# Altium footprint library PERfECT.PcbLib: 17 footprints (part 1 of 2)
Each footprint in its own frame and in the unit in brackets; x right, y up, seen from the top. Pads: shape width x height; smd on the part's side, far side on the other; paste and mask are expansions set on the pad; w line width, h text height; cw(c..) or ccw(c..) is an arc to the next point about the centre after c.
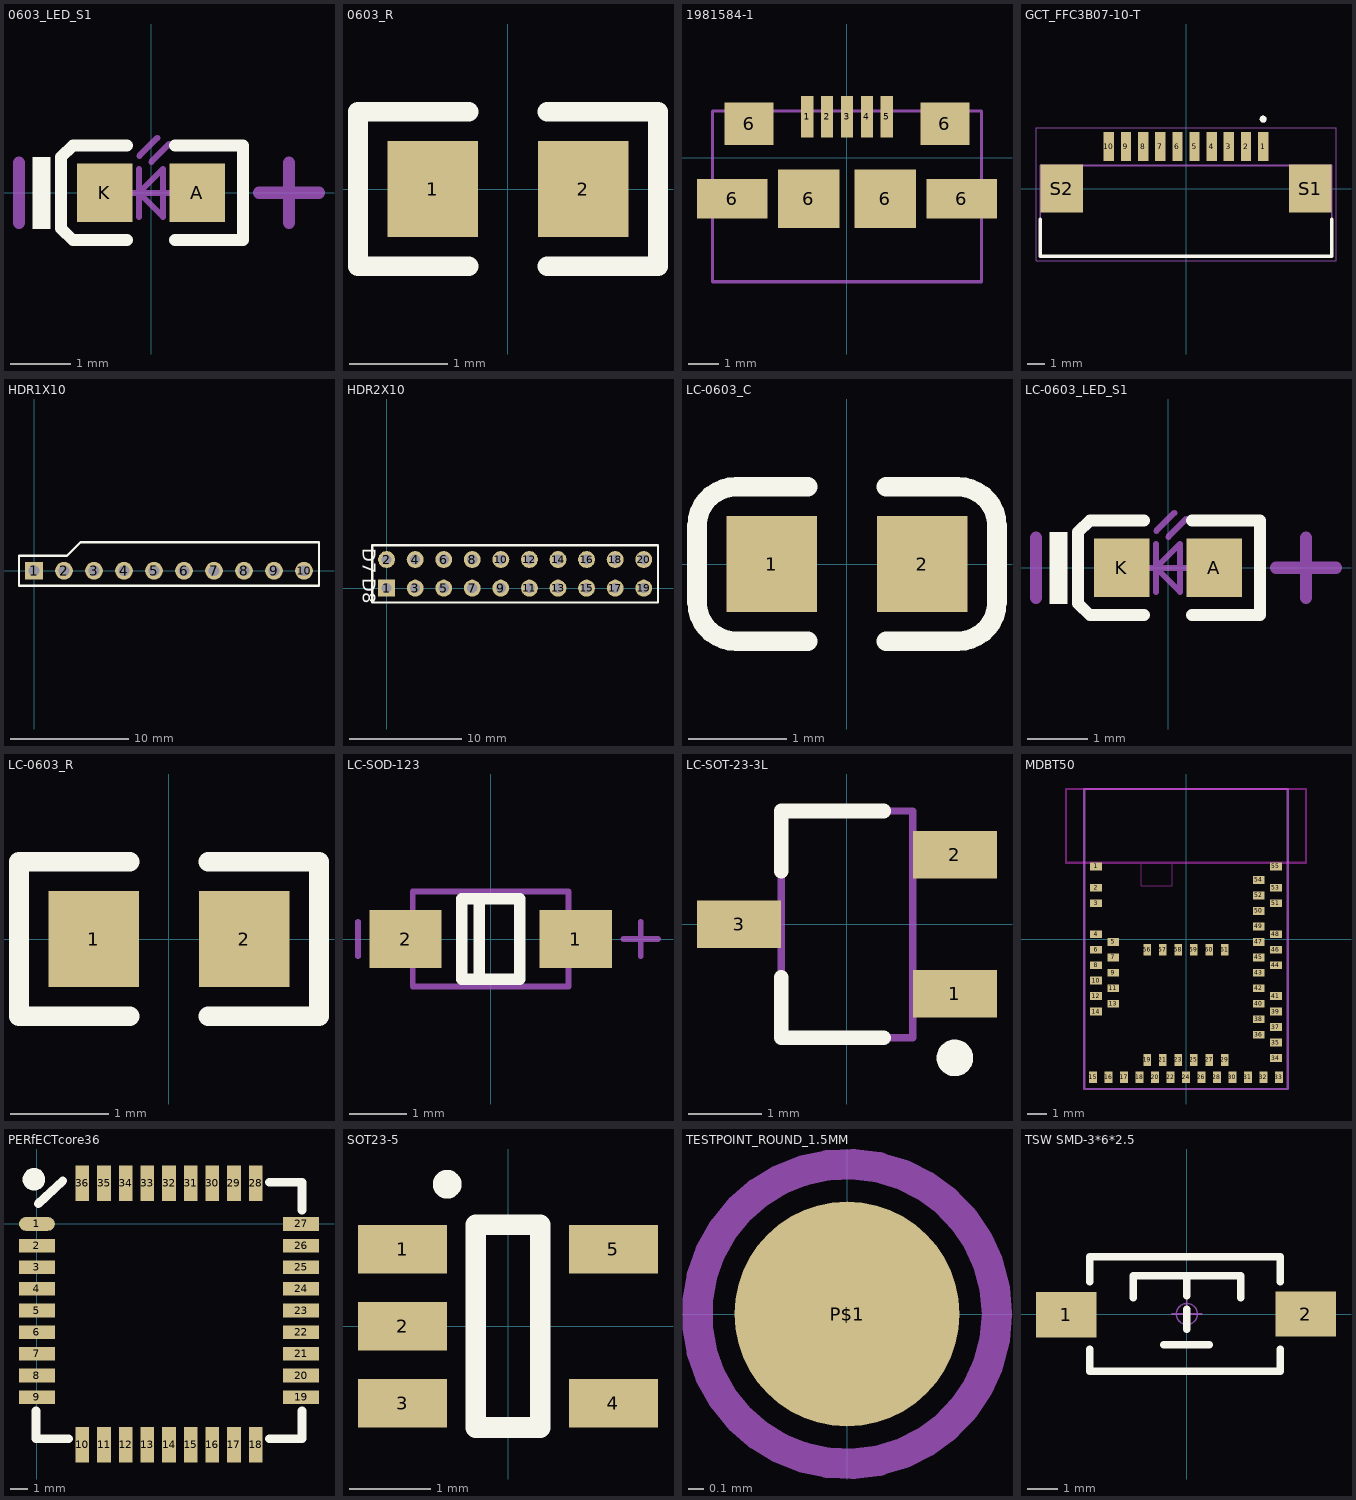
[diagram p0: the footprints below, top view; thin cyan lines are the x and y axes]

## 0603_LED_S1 [mm]
pads (2):
  rect 0.93x0.98 smd: A(0.77,0) K(-0.77,0)
Top Overlay:
  rectangle: -1.975,-0.6 -1.675,0.6
  lines w0.2: -0.4,-0.79 -1.3,-0.79 -1.5,-0.597 -1.5,0.597 -1.3,0.79 -0.4,0.79 ; 0.4,-0.79 1.535,-0.79 1.535,0.79 0.4,0.79
Mechanical 13:
  lines w0.1: -0.4,0 0.4,0 ; -0.2,-0.4 -0.2,0.4 ; -0.195,0.617 0.105,0.917 ; 0.005,0.517 0.305,0.817 ; -0.2,0 0.2,-0.4 0.2,0.4 -0.2,0
Mechanical 15:
  lines w0.203: -2.2,-0.5 -2.2,0.5 ; 1.8,0 2.8,0 ; 2.3,-0.5 2.3,0.5
3D body "User Library-LED_0603_R.STEP": height 0.6, standoff 0, extent -0.8,-0.4 0.8,0.4

## 0603_R [mm]
pads (2):
  rect 0.93x0.98 smd: 1(-0.77,0) 2(0.77,0)
Top Overlay:
  lines w0.2: -0.4,-0.79 -1.535,-0.79 -1.535,0.79 -0.4,0.79 ; 0.4,-0.79 1.535,-0.79 1.535,0.79 0.4,0.79
3D body "User Library-RES_1609-0603.STEP": height 0.56, standoff 0, extent -0.85,-0.4 0.85,0.4

## 1981584-1 [mm]
pads (11):
  rect 0.4x1.35 smd: 1(-1.3,1.338) 2(-0.65,1.338) 3(0,1.338) 4(0.65,1.338) 5(1.3,1.338)
  rect 2.3x1.3 smd: 6(-3.75,-1.337) 6(3.75,-1.337)
  rect 1.6x1.4 smd: 6(-3.2,1.113) 6(3.2,1.113)
  rect 2x1.9 smd: 6(-1.25,-1.337) 6(1.25,-1.337)
Mechanical 5:
  lines w0.102: -4.4,-4.05 -4.4,1.525 4.4,1.525 4.4,-4.05 -4.4,-4.05
  text ".Designator" at -2.54,2.794 h0.51
3D body "1981584-1.STEP": height 2.75, standoff -0.3, extent -4.4,-4.05 4.4,1.55

## GCT_FFC3B07-10-T [mm]
pads (12):
  rect 0.6x1.7 smd: 1(4.5,2.45) 2(3.5,2.45) 3(2.5,2.45) 4(1.5,2.45) 5(0.5,2.45) 6(-0.5,2.45) 7(-1.5,2.45) 8(-2.5,2.45) 9(-3.5,2.45) 10(-4.5,2.45)
  rect 2.5x2.8 smd: S1(7.25,0) S2(-7.25,0)
Top Overlay:
  circle w0.2: c4.5,4.05 r0.1
  lines w0.2: -8.5,-1.8 -8.5,-3.95 8.5,-3.95 8.5,-1.8
Mechanical 13:
  circle w0.2: c4.5,4.05 r0.1
  lines w0.1: -8.5,-3.95 8.5,-3.95 8.5,1.35 -8.5,1.35 -8.5,-3.95
Mechanical 15:
  lines w0.05: -8.75,-4.2 -8.75,3.55 8.75,3.55 8.75,-4.2 -8.75,-4.2
3D body "ZF1-10-01-T-WT-TR.stp": height 3.03, standoff 0.03, extent -8.505,-3.861 8.505,3.048

## HDR1X10 [mm]
pads (10):
  rect 1.5x1.5 hole 0.9: 1(0,0)
  round 1.5 hole 0.9: 2(2.54,0) 3(5.08,0) 4(7.62,0) 5(10.16,0) 6(12.7,0) 7(15.24,0) 8(17.78,0) 9(20.32,0) 10(22.86,0)
Top Overlay:
  lines w0.2: -1.27,-1.27 -1.27,1.27 2.794,1.27 3.937,2.413 24.13,2.413 24.13,-1.27 -1.27,-1.27

## HDR2X10 [mm]
pads (20):
  rect 1.5x1.5 hole 0.9: 1(0,0)
  round 1.5 hole 0.9: 2(0,2.54) 3(2.54,0) 4(2.54,2.54) 5(5.08,0) 6(5.08,2.54) 7(7.62,0) 8(7.62,2.54) 9(10.16,0) 10(10.16,2.54) 11(12.7,0) 12(12.7,2.54) 13(15.24,0) 14(15.24,2.54) 15(17.78,0) 16(17.78,2.54) 17(20.32,0) 18(20.32,2.54) 19(22.86,0) 20(22.86,2.54)
Top Overlay:
  lines w0.2: -1.27,-1.27 -1.27,3.81 0.635,3.81 24.13,3.81 24.13,-1.27 0.635,-1.27 -1.27,-1.27
  text "D7" at -2.54,3.556 h2
  text "D8" at -2.54,0.889 h2

## LC-0603_C [mm]
pads (2):
  rect 0.93x0.98 smd: 1(-0.77,0) 2(0.77,0)
Top Overlay:
  lines w0.2: -0.4,-0.79 -1.135,-0.79 cw(c-1.135,-0.39) -1.535,-0.39 -1.535,0.39 cw(c-1.135,0.39) -1.135,0.79 -0.4,0.79 ; 0.4,-0.79 1.135,-0.79 ccw(c1.135,-0.39) 1.535,-0.39 1.535,0.39 ccw(c1.135,0.39) 1.135,0.79 0.4,0.79
3D body "User Library-0603 SMD Capacitor.STEP": height 0.3, standoff 0, extent -0.8,-0.4 0.8,0.4

## LC-0603_LED_S1 [mm]
pads (2):
  rect 0.93x0.98 smd: A(0.77,0) K(-0.77,0)
Top Overlay:
  rectangle: -1.975,-0.6 -1.675,0.6
  lines w0.2: -0.4,-0.79 -1.3,-0.79 -1.5,-0.597 -1.5,0.597 -1.3,0.79 -0.4,0.79 ; 0.4,-0.79 1.535,-0.79 1.535,0.79 0.4,0.79
Mechanical 13:
  lines w0.1: -0.4,0 0.4,0 ; -0.2,-0.4 -0.2,0.4 ; -0.195,0.617 0.105,0.917 ; 0.005,0.517 0.305,0.817 ; -0.2,0 0.2,-0.4 0.2,0.4 -0.2,0
Mechanical 15:
  lines w0.203: -2.2,-0.5 -2.2,0.5 ; 1.8,0 2.8,0 ; 2.3,-0.5 2.3,0.5
3D body "User Library-LED_0603_R.STEP": height 0.6, standoff 0, extent -0.8,-0.4 0.8,0.4

## LC-0603_R [mm]
pads (2):
  rect 0.93x0.98 smd: 1(-0.77,0) 2(0.77,0)
Top Overlay:
  lines w0.2: -0.4,-0.79 -1.535,-0.79 -1.535,0.79 -0.4,0.79 ; 0.4,-0.79 1.535,-0.79 1.535,0.79 0.4,0.79
3D body "User Library-RES_1609-0603.STEP": height 0.56, standoff 0, extent -0.85,-0.4 0.85,0.4

## LC-SOD-123 [mm]
pads (2):
  rect 1.25x1 smd: 1(1.475,0) 2(-1.475,0)
Top Overlay:
  lines w0.2: -0.2,-0.7 -0.2,0.7 ; -0.5,-0.7 0.5,-0.7 0.5,0.7 -0.5,0.7 -0.5,-0.7
Mechanical 13:
  lines w0.1: -1.35,-0.825 -1.35,0.825 1.35,0.825 1.35,-0.825 -1.35,-0.825
Mechanical 15:
  lines w0.1: -2.3,-0.3 -2.3,0.3 ; 2.3,0 2.9,0 ; 2.6,-0.3 2.6,0.3
3D body "SOD123.STEP": height 1.35, standoff 0, extent -1.85,-0.775 1.85,0.775

## LC-SOT-23-3L [mm]
pads (3):
  rect 1.15x0.65 smd: 1(1.475,-0.95) 2(1.475,0.95) 3(-1.475,0)
Top Overlay:
  circle w0.25: c1.475,-1.825 r0.125
  lines w0.2: -0.9,-0.725 -0.9,-1.55 0.5,-1.55 ; -0.9,0.725 -0.9,1.55 0.5,1.55
Mechanical 13:
  lines w0.1: -0.9,-1.55 0.9,-1.55 0.9,1.55 -0.9,1.55 -0.9,-1.55
3D body: height 1.25, standoff 0, extent -0.9,-1.55 0.9,1.55

## MDBT50 [mil]
pads (61):
  rect 23.62x15.75 smd: 1(-183.07,147.64) 2(-183.07,104.33) 3(-183.07,72.83) 4(-183.07,9.84) 5(-147.64,-5.91) 6(-183.07,-21.65) 7(-147.64,-37.4) 8(-183.07,-53.15) 9(-147.64,-68.9) 10(-183.07,-84.65) 11(-147.64,-100.39) 12(-183.07,-116.14) 13(-147.64,-131.89) 14(-183.07,-147.64) 34(183.07,-242.13) 35(183.07,-210.63) 36(147.64,-194.88) 37(183.07,-179.13) 38(147.64,-163.39) 39(183.07,-147.64) 40(147.64,-131.89) 41(183.07,-116.14) 42(147.64,-100.39) 43(147.64,-68.9) 44(183.07,-53.15) 45(147.64,-37.4) 46(183.07,-21.65) 47(147.64,-5.91) 48(183.07,9.84) 49(147.64,25.59) 50(147.64,57.09) 51(183.07,72.83) 52(147.64,88.58) 53(183.07,104.33) 54(147.64,120.08) 55(183.07,147.64)
  rect 15.75x23.62 smd: 15(-188.98,-281.5) 16(-157.48,-281.5) 17(-125.98,-281.5) 18(-94.49,-281.5) 19(-78.74,-246.06) 20(-62.99,-281.5) 21(-47.24,-246.06) 22(-31.5,-281.5) 23(-15.75,-246.06) 24(0,-281.5) 25(15.75,-246.06) 26(31.5,-281.5) 27(47.24,-246.06) 28(62.99,-281.5) 29(78.74,-246.06) 30(94.49,-281.5) 31(125.98,-281.5) 32(157.48,-281.5) 33(188.98,-281.5) 56(-78.74,-21.65) 57(-47.24,-21.65) 58(-15.75,-21.65) 59(15.75,-21.65) 60(47.24,-21.65) 61(78.74,-21.65)
Top Layer:
  text "No ground pad" at -142.13,223.62 h26.77
  text "Toplayer no ground pad" at -86.22,116.14 h3.35
Top Layer keep-out:
  lines w2.36: -90.55,155.51 -90.55,108.27 -27.56,108.27 -27.56,155.51
  lines w5: -244.09,155.51 -244.09,305.12 244.09,305.12 244.09,155.51 -27.56,155.51 -90.55,155.51 -244.09,155.51
Mechanical 7:
  lines w5: -206.69,-305.12 206.69,-305.12 206.69,305.12 -206.69,305.12 -206.69,-305.12
3D body "NINA-B3x6_mechanical_model.stp": height 91.14, standoff 1.37, extent -196.81,-295 196.89,295.55

## PERfECTcore36 [mm]
pads (36):
  oval 2.1x0.8 smd: 1(0,0)
  rect 2.1x0.8 smd: 2(0,-1.27) 3(0,-2.54) 4(0,-3.81) 5(0,-5.08) 6(0,-6.35) 7(0,-7.62) 8(0,-8.89) 9(0,-10.16) 19(15.494,-10.16) 20(15.494,-8.89) 21(15.494,-7.62) 22(15.494,-6.35) 23(15.494,-5.08) 24(15.494,-3.81) 25(15.494,-2.54) 26(15.494,-1.27) 27(15.494,0)
  rect 0.8x2.1 smd: 10(2.667,-12.954) 11(3.937,-12.954) 12(5.207,-12.954) 13(6.477,-12.954) 14(7.747,-12.954) 15(9.017,-12.954) 16(10.287,-12.954) 17(11.557,-12.954) 18(12.827,-12.954) 28(12.827,2.391) 29(11.557,2.391) 30(10.287,2.391) 31(9.017,2.391) 32(7.747,2.391) 33(6.477,2.391) 34(5.207,2.391) 35(3.937,2.391) 36(2.667,2.391)
Top Overlay:
  region: -0.825,2.617 -0.825,2.488 -0.726,2.25 -0.544,2.068 -0.306,1.969 -0.177,1.969 -0.048,1.969 0.19,2.068 0.372,2.25 0.47,2.488 0.47,2.617 0.47,2.746 0.372,2.984 0.19,3.166 -0.048,3.264 -0.177,3.264 -0.306,3.264 -0.544,3.166 -0.726,2.984 -0.825,2.746
  lines w0.508: -0.05,-10.96 -0.05,-12.601 1.867,-12.601 ; 0.077,1.181 1.524,2.54 ; 13.627,-12.601 15.544,-12.601 15.544,-10.96 ; 13.627,2.441 15.544,2.441 15.544,0.8
3D body: height 0.51, standoff 0, extent 0.134,-12.677 15.134,2.323

## SOT23-5 [mm]
pads (5):
  rect 1.1x0.6 smd: 1(-1.3,0.95) 2(-1.3,0) 3(-1.3,-0.95) 4(1.3,-0.95) 5(1.3,0.95)
Top Overlay:
  circle w0.254: c-0.75,1.75 r0.05
  lines w0.254: -0.4,-1.25 -0.4,1.25 0.4,1.25 0.4,-1.25 -0.4,-1.25
Mechanical 13:
  lines w0.025: -0.4,-1.25 0.4,-1.25 0.4,1.25 -0.4,1.25 -0.4,-1.25
3D body: height 0.95, standoff 0, extent -0.6,-1.15 0.6,1.25

## TESTPOINT_ROUND_1.5MM [mm]
pads (1):
  rrect100% 1.5x1.5 smd paste+0: P$1(0,0)
Mechanical 7:
  circle w0.203: c0,0 r1
3D body: height 1.27, standoff 0, extent -0.757,-0.757 0.757,0.757

## TSW SMD-3*6*2.5 [mm]
pads (2):
  rect 2x1.5 smd: 1(-3.996,-0.02) 2(3.937,0)
Top Overlay:
  lines w0.254: -3.212,-1.168 -3.212,-1.9 3.088,-1.9 3.088,-1.168 ; -3.212,1.067 -3.212,1.9 3.088,1.9 3.088,1.067 ; -1.778,0.533 -1.778,1.27 1.778,1.27 1.778,0.533 ; -0.762,-1.016 0.737,-1.016 ; 0,-0.508 0,0.152 ; 0,0.61 0,1.27
Mechanical 15:
  circle w0.05: c0,0 r0.35
  lines w0.05: -0.5,0 0.5,0 ; 0,-0.5 0,0.5
3D body "TSW SMD-3x6x2.5.STEP": height 2.59, standoff -0.03, extent -4,-1.877 4,1.623